# EAGLE library part 6-WAY (library pimoroni-headers)
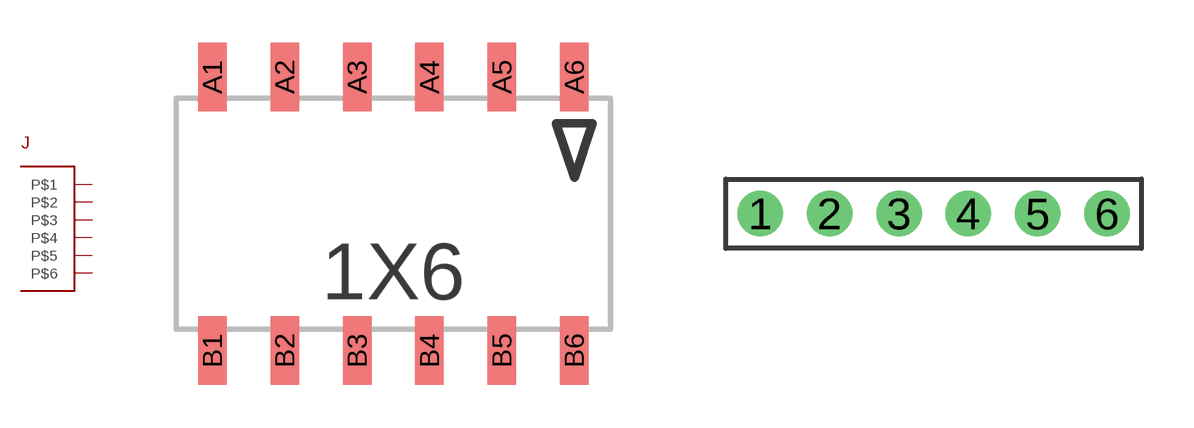
[diagram p16: symbol with the pads of 1X6_FEMALE_SMT_RIGHT_ANGLE; footprints 1X6_FEMALE_SMT_RIGHT_ANGLE, 1X6_2MM]

Designator prefix J

## 6-WAY  [1X6_FEMALE_SMT_RIGHT_ANGLE]
A1  P$1
A2  P$2
A3  P$3
A4  P$4
A5  P$5
A6  P$6
B1  P$1
B2  P$2
B3  P$3
B4  P$4
B5  P$5
B6  P$6

## 6-WAY2MM_PITCH  [1X6_2MM]
1  P$1
2  P$2
3  P$3
4  P$4
5  P$5
6  P$6

## Footprint 1X6_FEMALE_SMT_RIGHT_ANGLE (pad centres in mm)
smd 1 x 2.4: A1 -6.35,4.8; A2 -3.81,4.8; A3 -1.27,4.8; A4 1.27,4.8; A5 3.81,4.8; A6 6.35,4.8; B1 -6.35,-4.8; B2 -3.81,-4.8; B3 -1.27,-4.8; B4 1.27,-4.8; B5 3.81,-4.8; B6 6.35,-4.8

## Footprint 1X6_2MM (pad centres in mm)
drill 0.8: 1 -5,0; 2 -3,0; 3 -1,0; 4 1,0; 5 3,0; 6 5,0